# Altium integrated library pca63550.IntLib: 20 symbols
Pins are listed as number, name and electrical type; pins without a type are passive.

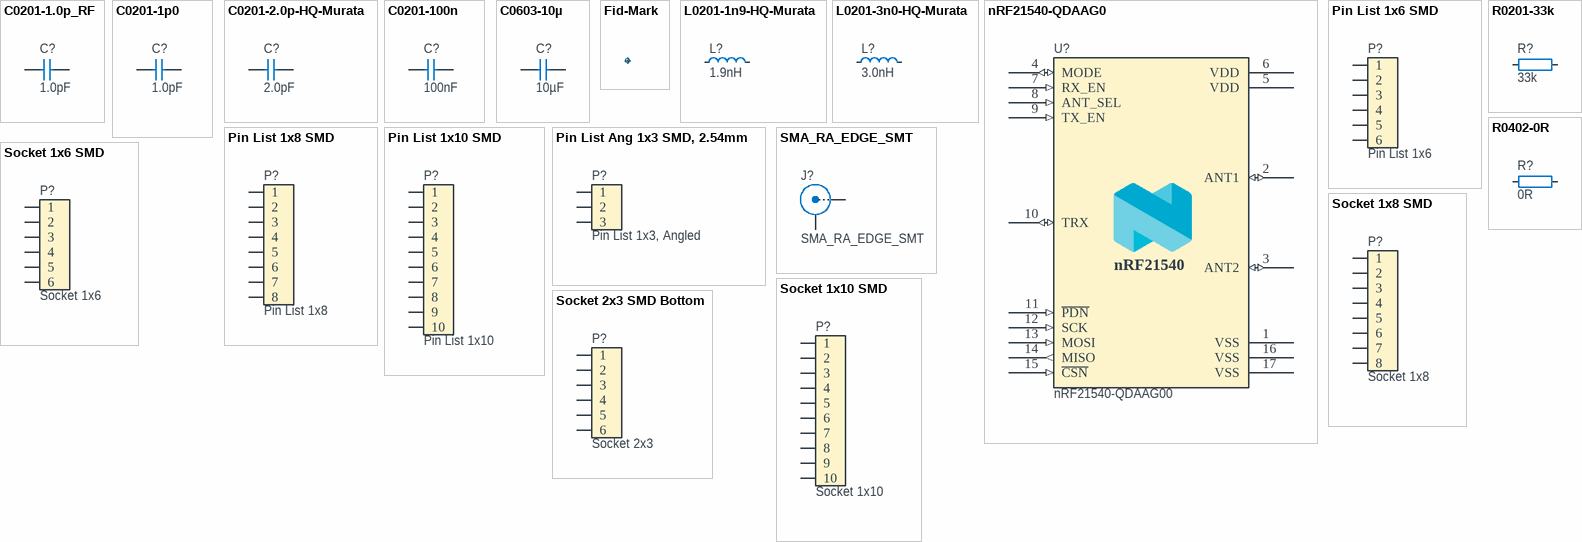
[diagram p0: symbols C0201-1.0p_RF to Socket 2x3 SMD Bottom]

## C0201-1.0p_RF
designator C?, comment 1.0pF
RF Chip Cap 0201; Part Number: C0201-1.0p_RF; Manufacturer: N.A.; Part number NEMS: 100200085; Note: High frequency chip capasitors ±5%, NP0; Pad Count: 2; Component Status: Active; Manufacturer Part Number: N.A.; ComponentLink1URL: N.A.; ComponentLink1Description: Datasheet; ComponentLink2URL: N.A.; ComponentLink2Description: Supplier link; HelpURL: N.A.; Footprint Doc: 0201; LatestRevisionDate: 2016-04-22; Published: 2016-04-22; Value: 1.0pF; Supplier 1: N.A.; Supplier Part Number 1: N.A.; Supplier 2: N.A.; Supplier Part Number 2: N.A.; Artikkelnr Noca: N.A.; Part number IPS: N.A.; PartId: 100200085; Component Class: Capacitors; Author: rsk; Part number Norautron: N.A.
footprint CAPC0603X03L_C
pins: 1, 2

## C0201-1p0
designator C?, comment 1.0pF
Capacitor, C0G, ±0.1pF, 25V; Part Number: C0201-1p0; Manufacturer: Murata; Manufacturer Part Number: GJM0335C1E1R0BB01D; Part number IPS: 00000007964; Part number NEMS: 100200398; Artikkelnr Noca: N.A.; Pad Count: 2; Component Status: Active; ComponentLink1URL: N.A.; ComponentLink1Description: Datasheet; ComponentLink2Description: Supplier link; HelpURL: http://search.murata.co.jp/Ceramy/image/img/A01X/G101/ENG/GJM0335C1E1R0BB01-01.pdf; Footprint Doc: 0201; LatestRevisionDate: 2020-10-13; Published: 2017-09-21; Value: 1.0pF; Note: ±0.1pF; ComponentLink2URL: N.A.; Supplier 1: Digi-Key; Supplier Part Number 1: 490-11172-1-ND; Supplier 2: N.A.; Supplier Part Number 2: N.A.; PartId: 100200398; Component Class: Capacitors; Author: rsk; Part number Norautron: N.A.
footprint CAPC0603X03L_C
pins: 1, 2

## C0201-2.0p-HQ-Murata
designator C?, comment 2.0pF
Capacitor, NP0, ±0.05pF, 25V; Part Number: C0201-2.0p-HQ-Murata; Manufacturer: Murata; Manufacturer Part Number: GJM0335C1E2R0WB01; Part number IPS: 00000001775; Part number NEMS: 100200419; Artikkelnr Noca: N.A.; Pad Count: 2; Component Status: Active; ComponentLink1URL: N.A.; ComponentLink1Description: Datasheet; ComponentLink2URL: N.A.; ComponentLink2Description: Supplier link; HelpURL: https://psearch.en.murata.com/capacitor/product/GJM0335C1E2R0WB01%23.html; Footprint Doc: 0201; LatestRevisionDate: 2018-10-25; Published: 2018-10-25; Value: 2.0pF; Note: 25V; Supplier 1: N.A.; Supplier Part Number 1: N.A.; Supplier 2: N.A.; Supplier Part Number 2: N.A.; PartId: 100200419; Component Class: Capacitors; Author: rsk; Part number Norautron: N.A.
footprint CAPC0603X03L_C
pins: 1, 2

## C0201-100n
designator C?, comment 100nF
Capacitor, X5R, ±10%; Part Number: C0201-100n; Manufacturer: N.A.; Part number IPS: 00000001248, 00000002505; Part number Norautron: 262071862; Part number NEMS: 100200078; Note: 16V; Pad Count: 2; Component Status: Active; Manufacturer Part Number: N.A.; ComponentLink1URL: N.A.; ComponentLink1Description: Datasheet; ComponentLink2URL: N.A.; ComponentLink2Description: Supplier link; HelpURL: N.A.; Footprint Doc: 0201; LatestRevisionDate: 2017-11-09; Published: 2014-11-13; Value: 100nF; Artikkelnr Noca: N.A.; Supplier 1: N.A.; Supplier Part Number 1: N.A.; Supplier 2: N.A.; Supplier Part Number 2: N.A.; PartId: 100200078; Component Class: Capacitors; Author: rsk
footprint CAPC0603X03L_C
pins: 1, 2

## C0603-10µ
designator C?, comment 10µF
Capacitor, X5R, ±20%; Part Number: C0603-10µ; Manufacturer: N.A.; Part number IPS: 00000007785; Part number NEMS: 100200275; Note: 6.3V; Artikkelnr Noca: 20039234; Pad Count: 2; Component Status: Active; Manufacturer Part Number: N.A.; ComponentLink1URL: N.A.; ComponentLink1Description: Datasheet; ComponentLink2URL: N.A.; ComponentLink2Description: Supplier link; HelpURL: N.A.; Footprint Doc: 0603; LatestRevisionDate: 2011-01-17; Published: 2011-01-17; Value: 10µF; Supplier 1: N.A.; Supplier Part Number 1: N.A.; Supplier 2: N.A.; Supplier Part Number 2: N.A.; PartId: 100200275; Component Class: Capacitors; Author: rsk; Part number Norautron: N.A.
footprint CAPC1608X06L
pins: 1, 2

## Fid-Mark
designator Fid?, comment Fiducial mark  (value not drawn)
Part Number: Fid-Mark; Manufacturer: N.A.; Part number NEMS: 100500073; Value: N.A.; Pad Count: 1; Component Status: Active; Manufacturer Part Number: N.A.; LatestRevisionDate: 2009-12-12; Published: 2009-12-12; Note: N.A.; Artikkelnr Noca: N.A.; Footprint Doc: Fiducial; ComponentLink1URL: N.A.; ComponentLink1Description: Datasheet; ComponentLink2URL: N.A.; ComponentLink2Description: Supplier link; HelpURL: N.A.; Part number IPS: N.A.; Supplier 1: N.A.; Supplier Part Number 1: N.A.; Supplier 2: N.A.; Supplier Part Number 2: N.A.; PartId: 100500073; Component Class: Connectors; Author: rsk; Part number Norautron: N.A.
footprint Fiducial

## L0201-1n9-HQ-Murata
designator L?, comment 1.9nH
Inductor, 600mA, ±0.1ｎH, 120mOhm; Part Number: L0201-1n9-HQ-Murata; Manufacturer: Murata; Manufacturer Part Number: LQP03HQ1N9B02; Part number IPS: 00000004903; Part number NEMS: 100300206; Note: -55°C ~ 125°C; Artikkelnr Noca: N.A.; Pad Count: 2; Component Status: Active; ComponentLink1URL: https://search.murata.co.jp/Ceramy/image/img/P02/JELF243C-0021.pdf; ComponentLink1Description: Datasheet; ComponentLink2Description: Supplier link; HelpURL: https://psearch.en.murata.com/inductor/product/LQP03HQ1N9B02%23.html; Footprint Doc: 0201; LatestRevisionDate: 2018-10-23; Published: 2018-10-23; Value: 1.9nH; ComponentLink2URL: N.A.; Supplier 1: Digi-Key; Supplier Part Number 1: 490-13889-1-ND; Supplier 2: N.A.; Supplier Part Number 2: N.A.; PartId: 100300206; Component Class: Inductors; Author: rsk; Part number Norautron: N.A.
footprint INDC0603X03L_C
pins: 1, 2

## L0201-3n0-HQ-Murata
designator L?, comment 3.0nH
Inductor, 600mA, ±0.1ｎH, 120mOhm; Part Number: L0201-3n0-HQ-Murata; Manufacturer: Murata; Manufacturer Part Number: LQP03HQ3N0B02; Part number NEMS: 100300217; Note: -55°C ~ 125°C; Artikkelnr Noca: N.A.; Pad Count: 2; Component Status: Active; ComponentLink1URL: https://search.murata.co.jp/Ceramy/image/img/P02/JELF243C-0021.pdf; ComponentLink1Description: Datasheet; ComponentLink2Description: Supplier link; HelpURL: https://psearch.en.murata.com/inductor/product/LQP03HQ3N0B02%23.html; Footprint Doc: 0201; LatestRevisionDate: 2018-10-23; Published: 2018-10-23; Value: 3.0nH; Part number IPS: N.A.; ComponentLink2URL: N.A.; Supplier 1: Digi-Key; Supplier Part Number 1: 490-13915-1-ND; Supplier 2: N.A.; Supplier Part Number 2: N.A.; PartId: 100300217; Component Class: Inductors; Author: rsk; Part number Norautron: N.A.
footprint INDC0603X03L_C
pins: 1, 2

## nRF21540-QDAAG0
designator U?, comment nRF21540-QDAAG00
Radio front-end / range extender for 2.4GHz; Manufacturer: Nordic Semiconductor; Part number NEMS: 102000223; Note: N.A.; Pad Count: 16; Component Status: Active; Part Number: nRF21540-QDAAG0; Manufacturer Part Number: nRF21540-QDAAG00; ComponentLink1URL: N.A.; ComponentLink1Description: Datasheet; ComponentLink2URL: N.A.; ComponentLink2Description: Supplier link; HelpURL: N.A.; Footprint Doc: QFN-16; LatestRevisionDate: 2021-03-24; Published: 2021-03-24; Value: nRF21540-QDAAG00; Artikkelnr Noca: N.A.; Part number IPS: N.A.; Supplier 1: Nordic Semiconductor; Supplier Part Number 1: nRF21540-QDAAG00; Supplier 2: N.A.; Supplier Part Number 2: N.A.; PartId: 102000223; Component Class: nRF_Devices; Author: hany; Part number Norautron: N.A.
footprint QFN65P400X400X65_HS-17N
pins: 1 VSS (power), 2 ANT1 (io), 3 ANT2 (io), 4 MODE (io), 5 VDD (power), 6 VDD (power), 7 RX_EN (in), 8 ANT_SEL (in), 9 TX_EN (in), 10 TRX (io), 11 ~{PDN} (in), 12 SCK (in), 13 MOSI (in), 14 MISO (out), 15 ~{CSN} (in), 16 VSS (power), 17 VSS (power)
text: nRF21540

## Pin List 1x6 SMD
designator P?, comment Pin List 1x6
Pin List 1x6, 2.54mm (100mil), SMD; Part Number: Pin List 1x6 SMD; Manufacturer: W-CON; Manufacturer Part Number: 1125-1106S0M116R2; Part number NEMS: 100500320; Note: N.A.; Artikkelnr Noca: 55010026; Pad Count: 6; Component Status: Active; LatestRevisionDate: 2016-03-29; Published: 2016-03-29; Value: Pin List 1x6; Footprint Doc: LIST_1x6_SMD; ComponentLink1URL: N.A.; ComponentLink1Description: Datasheet; ComponentLink2URL: N.A.; ComponentLink2Description: Supplier link; HelpURL: \\hizz\pro\app9717\Datasheet\connectors\W-CON\1125-11XXXXMXXXXX.pdf; Part number IPS: N.A.; Supplier 1: Cabcon; Supplier Part Number 1: 1125-1106S0M116R2; Supplier 2: Samtec; Supplier Part Number 2: TSM-106-01-L-SV-P-TR; PartId: 100500320; Component Class: Connectors; Author: rsk; Part number Norautron: N.A.
footprint LIST_1x6_SMD
pins: 1, 2, 3, 4, 5, 6
1 alternate drawing of the same symbol

## Pin List 1x8 SMD
designator P?, comment Pin List 1x8
Pin List 1x8, 2.54mm (100mil), SMD; Part Number: Pin List 1x8 SMD; Manufacturer: W-CON; Manufacturer Part Number: 1125-1108S0M116R2; Part number IPS: 00000001701; Part number NEMS: 100500329; Note: N.A.; Artikkelnr Noca: 55010006; Pad Count: 8; Component Status: Active; LatestRevisionDate: 2016-01-22; Published: 2016-01-22; Value: Pin List 1x8; Footprint Doc: LIST_1x8_SMD; ComponentLink1URL: N.A.; ComponentLink1Description: Datasheet; ComponentLink2URL: N.A.; ComponentLink2Description: Supplier link; HelpURL: \\hizz\pro\app9717\Datasheet\connectors\W-CON\1125-11XXXXMXXXXX.pdf; Supplier 1: Cabcon; Supplier Part Number 1: 1125-1108S0M116R2; Supplier 2: Samtec; Supplier Part Number 2: TSM-108-01-L-SV-P-TR; PartId: 100500329; Component Class: Connectors; Author: rsk; Part number Norautron: N.A.
footprint LIST_1x8_SMD
pins: 1, 2, 3, 4, 5, 6, 7, 8
1 alternate drawing of the same symbol

## Pin List 1x10 SMD
designator P?, comment Pin List 1x10
Pin List 1x10, 2.54mm (100mil), SMD; Part Number: Pin List 1x10 SMD; Manufacturer: W-CON; Manufacturer Part Number: 1125-1110S0M116R2; Part number IPS: 00000004906; Part number NEMS: 100500337; Note: N.A.; Artikkelnr Noca: 55010028; Pad Count: 10; Component Status: Active; LatestRevisionDate: 2016-03-29; Published: 2016-03-29; Value: Pin List 1x10; Footprint Doc: LIST_1x10_SMD; ComponentLink1URL: N.A.; ComponentLink1Description: Datasheet; ComponentLink2URL: N.A.; ComponentLink2Description: Supplier link; HelpURL: \\hizz\pro\app9717\Datasheet\connectors\W-CON\1125-11XXXXMXXXXX.pdf; Supplier 1: Cabcon; Supplier Part Number 1: 1125-1110S0M116R2; Supplier 2: Samtec; Supplier Part Number 2: TSM-110-01-L-SV-P-TR; PartId: 100500337; Component Class: Connectors; Author: rsk; Part number Norautron: N.A.
footprint LIST_1x10_SMD
pins: 1, 2, 3, 4, 5, 6, 7, 8, 9, 10
1 alternate drawing of the same symbol

## Pin List Ang 1x3 SMD, 2.54mm
designator P?, comment Pin List 1x3, Angled
Pin List 1x3, 2.54mm (100mil), Right Angled, SMD; Part Number: Pin List Ang 1x3 SMD, 2.54mm; Manufacturer: W-CON; Manufacturer Part Number: 1125B-1103S0Z135R2; Part number IPS: 00000009971; Part number NEMS: 100500356; Note: N.A.; Artikkelnr Noca: 55010027; Pad Count: 3; Component Status: Active; Footprint Doc: LIST_ANG_1x3-SMD-2.54MM; LatestRevisionDate: 2016-05-26; Published: 2015-01-23; Value: Pin List 1x3, Angled; ComponentLink1URL: N.A.; ComponentLink1Description: Datasheet; ComponentLink2URL: N.A.; ComponentLink2Description: Supplier link; HelpURL: N.A.; Supplier 1: Cabcon; Supplier Part Number 1: 1125B-1103S0Z135R2; Supplier 2: Samtec; Supplier Part Number 2: TSM-103-01-L-SH-A; PartId: 100500356; Component Class: Connectors; Author: rsk; Part number Norautron: N.A.
footprint LIST_ANG_1x3-SMD-2.54MM
pins: 1, 2, 3

## R0201-33k
designator R?, comment 33k
Resistor, ±1%, 0.05W; Part Number: R0201-33k; Manufacturer: N.A.; Part number IPS: 00000001708; Part number NEMS: 100100073; Note: Chip Res 1%; Pad Count: 2; Component Status: Active; Manufacturer Part Number: N.A.; LatestRevisionDate: 2014-11-13; Published: 2014-11-13; Value: 33k; Artikkelnr Noca: N.A.; Footprint Doc: 0201; ComponentLink1URL: N.A.; ComponentLink1Description: Datasheet; ComponentLink2URL: N.A.; ComponentLink2Description: Supplier link; HelpURL: N.A.; Supplier 1: N.A.; Supplier Part Number 1: N.A.; Supplier 2: N.A.; Supplier Part Number 2: N.A.; PartId: 100100073; Component Class: Resistors; Author: rsk; Part number Norautron: N.A.
footprint RESC0603X03L_C
pins: 1, 2

## R0402-0R
designator R?, comment 0R
Resistor, ±5%, 0.063W; Part Number: R0402-0R; Manufacturer: N.A.; Part number IPS: 00000007128; Part number NEMS: 100100109; Note: Chip Res 5%; Artikkelnr Noca: 27049000; Pad Count: 2; Component Status: Active; Manufacturer Part Number: N.A.; LatestRevisionDate: 2009-11-23; Published: 2009-05-08; Value: 0R; Footprint Doc: 0402; ComponentLink1URL: N.A.; ComponentLink1Description: Datasheet; ComponentLink2URL: N.A.; ComponentLink2Description: Supplier link; HelpURL: N.A.; Supplier 1: Farnell; Supplier Part Number 1: 146-9661; Supplier 2: N.A.; Supplier Part Number 2: N.A.; PartId: 100100109; Component Class: Resistors; Author: rsk; Part number Norautron: N.A.
footprint RESC1005X04L
pins: 1, 2

## SMA_RA_EDGE_SMT
designator J?, comment Part Number: SMA_RA_EDGE_SMT  (hidden comment: SMA_2081005-1)
SMA, Female, Right Angle, TH/SMT, 50Ohm, Board Edge; Manufacturer: CompuPack; Manufacturer Part Number: ARFRBE22029-GGP; Part number IPS: 00000004905; Part number NEMS: 100500674; Artikkelnr Noca: N.A.; Pad Count: 2; Component Status: Active; Value: SMA_2081005-1; Supplier 1: Cabcon; Supplier Part Number 1: C-Q1911001; ComponentLink1Description: Datasheet; ComponentLink1URL: N.A.; ComponentLink2Description: Supplier link; ComponentLink2URL: N.A.; Footprint Doc: SMA; HelpURL: N.A.; LatestRevisionDate: 2020-06-05; Published: 2020-06-05; PartId: 100500674; Component Class: Connectors; Author: rsk; Note: N.A.; Supplier 2: N.A.; Supplier Part Number 2: N.A.; Part number Norautron: N.A.
footprint SMA_2081005-1
pins: 1 X, 2 Y

## Socket 1x6 SMD
designator P?, comment Socket 1x6
Socket 1x6, 2.54mm (100mil), SMD; Part Number: Socket 1x6 SMD; Manufacturer: W-CON; Manufacturer Part Number: 2171-106MS0CUNR1; Part number IPS: 00000009964; Part number Norautron: 26032370; Part number NEMS: 100500408; Note: N.A.; Artikkelnr Noca: 55030001; Pad Count: 6; Component Status: Active; LatestRevisionDate: 2017-10-23; Published: 2016-01-22; Value: Socket 1x6; Footprint Doc: SOCKET_1x6_SMD; ComponentLink1URL: N.A.; ComponentLink1Description: Datasheet; ComponentLink2URL: N.A.; ComponentLink2Description: Supplier link; HelpURL: N.A.; Supplier 1: Cabcon; Supplier Part Number 1: 2171-106MS0CUNR1; Supplier 2: Samtec; Supplier Part Number 2: SSM-106-F-SV-P-TR; PartId: 100500408; Component Class: Connectors; Author: rsk
footprint SOCKET_1x6_SMD
pins: 1, 2, 3, 4, 5, 6
1 alternate drawing of the same symbol

## Socket 1x8 SMD
designator P?, comment Socket 1x8
Socket 1x8, 2.54mm (100mil), SMD; Part Number: Socket 1x8 SMD; Manufacturer: W-CON; Manufacturer Part Number: 2171-108MS0CUNR1; Part number IPS: 00000009963; Part number Norautron: 26032369; Part number NEMS: 100500412; Note: N.A.; Artikkelnr Noca: 55030002; Pad Count: 8; Component Status: Active; LatestRevisionDate: 2017-10-23; Published: 2016-01-22; Value: Socket 1x8; Footprint Doc: SOCKET_1x8_SMD; ComponentLink1URL: N.A.; ComponentLink1Description: Datasheet; ComponentLink2URL: N.A.; ComponentLink2Description: Supplier link; HelpURL: N.A.; Supplier 1: Cabcon; Supplier Part Number 1: 2171-108MS0CUNR1; Supplier 2: Samtec; Supplier Part Number 2: SSM-108-F-SV-P-TR; PartId: 100500412; Component Class: Connectors; Author: rsk
footprint SOCKET_1x8_SMD
pins: 1, 2, 3, 4, 5, 6, 7, 8
1 alternate drawing of the same symbol

## Socket 1x10 SMD
designator P?, comment Socket 1x10
Socket 1x10, 2.54mm (100mil), SMD; Part Number: Socket 1x10 SMD; Manufacturer: W-CON; Manufacturer Part Number: 2171-110MS0CUNR1; Part number IPS: 00000009965; Part number Norautron: 26032371; Part number NEMS: 100500416; Note: N.A.; Artikkelnr Noca: 55030004; Pad Count: 10; Component Status: Active; LatestRevisionDate: 2016-01-22; Published: 2016-01-22; Value: Socket 1x10; Footprint Doc: SOCKET_1x10_SMD; ComponentLink1URL: N.A.; ComponentLink1Description: Datasheet; ComponentLink2URL: N.A.; ComponentLink2Description: Supplier link; HelpURL: N.A.; Supplier 1: Cabcon; Supplier Part Number 1: 2171-110MS0CUNR1; Supplier 2: Samtec; Supplier Part Number 2: SSM-110-F-SV-P-TR; PartId: 100500416; Component Class: Connectors; Author: rsk
footprint SOCKET_1x10_SMD
pins: 1, 2, 3, 4, 5, 6, 7, 8, 9, 10
1 alternate drawing of the same symbol

## Socket 2x3 SMD Bottom
designator P?, comment Socket 2x3
Socket 2x3, 2.54mm (100mil), SMD; Part Number: Socket 2x3 SMD Bottom; Manufacturer: W-CON; Manufacturer Part Number: 2171-203MS0CUNR1; Part number IPS: 00000004907; Part number NEMS: 100500433; Note: N.A.; Artikkelnr Noca: 55030010; Pad Count: 6; Component Status: Active; LatestRevisionDate: 2016-03-29; Published: 2014-06-10; Value: Socket 2x3; Footprint Doc: SOCKET_2x3_SMD-2.54mm-bottom; ComponentLink1URL: N.A.; ComponentLink1Description: Datasheet; ComponentLink2URL: N.A.; ComponentLink2Description: Supplier link; HelpURL: \\hizz\pro\app9717\Datasheet\connectors\W-CON\2171-2XXMXXCUNXX.pdf; Supplier 1: Cabcon; Supplier Part Number 1: 2171-203MS0CUNR1; Supplier 2: Samtec; Supplier Part Number 2: SSM-103-F-DV-P-TR; PartId: 100500433; Component Class: Connectors; Author: rsk; Part number Norautron: N.A.
footprint SOCKET_2x3_SMD-2.54mm-bottom
pins: 1, 2, 3, 4, 5, 6
1 alternate drawing of the same symbol